# Altium footprint library EL.XXX.T01.PcbLib: 92 footprints (part 5 of 6)
Each footprint in its own frame and in the unit in brackets; x right, y up, seen from the top. Pads: shape width x height; smd on the part's side, far side on the other; paste and mask are expansions set on the pad; w line width, h text height; cw(c..) or ccw(c..) is an arc to the next point about the centre after c.
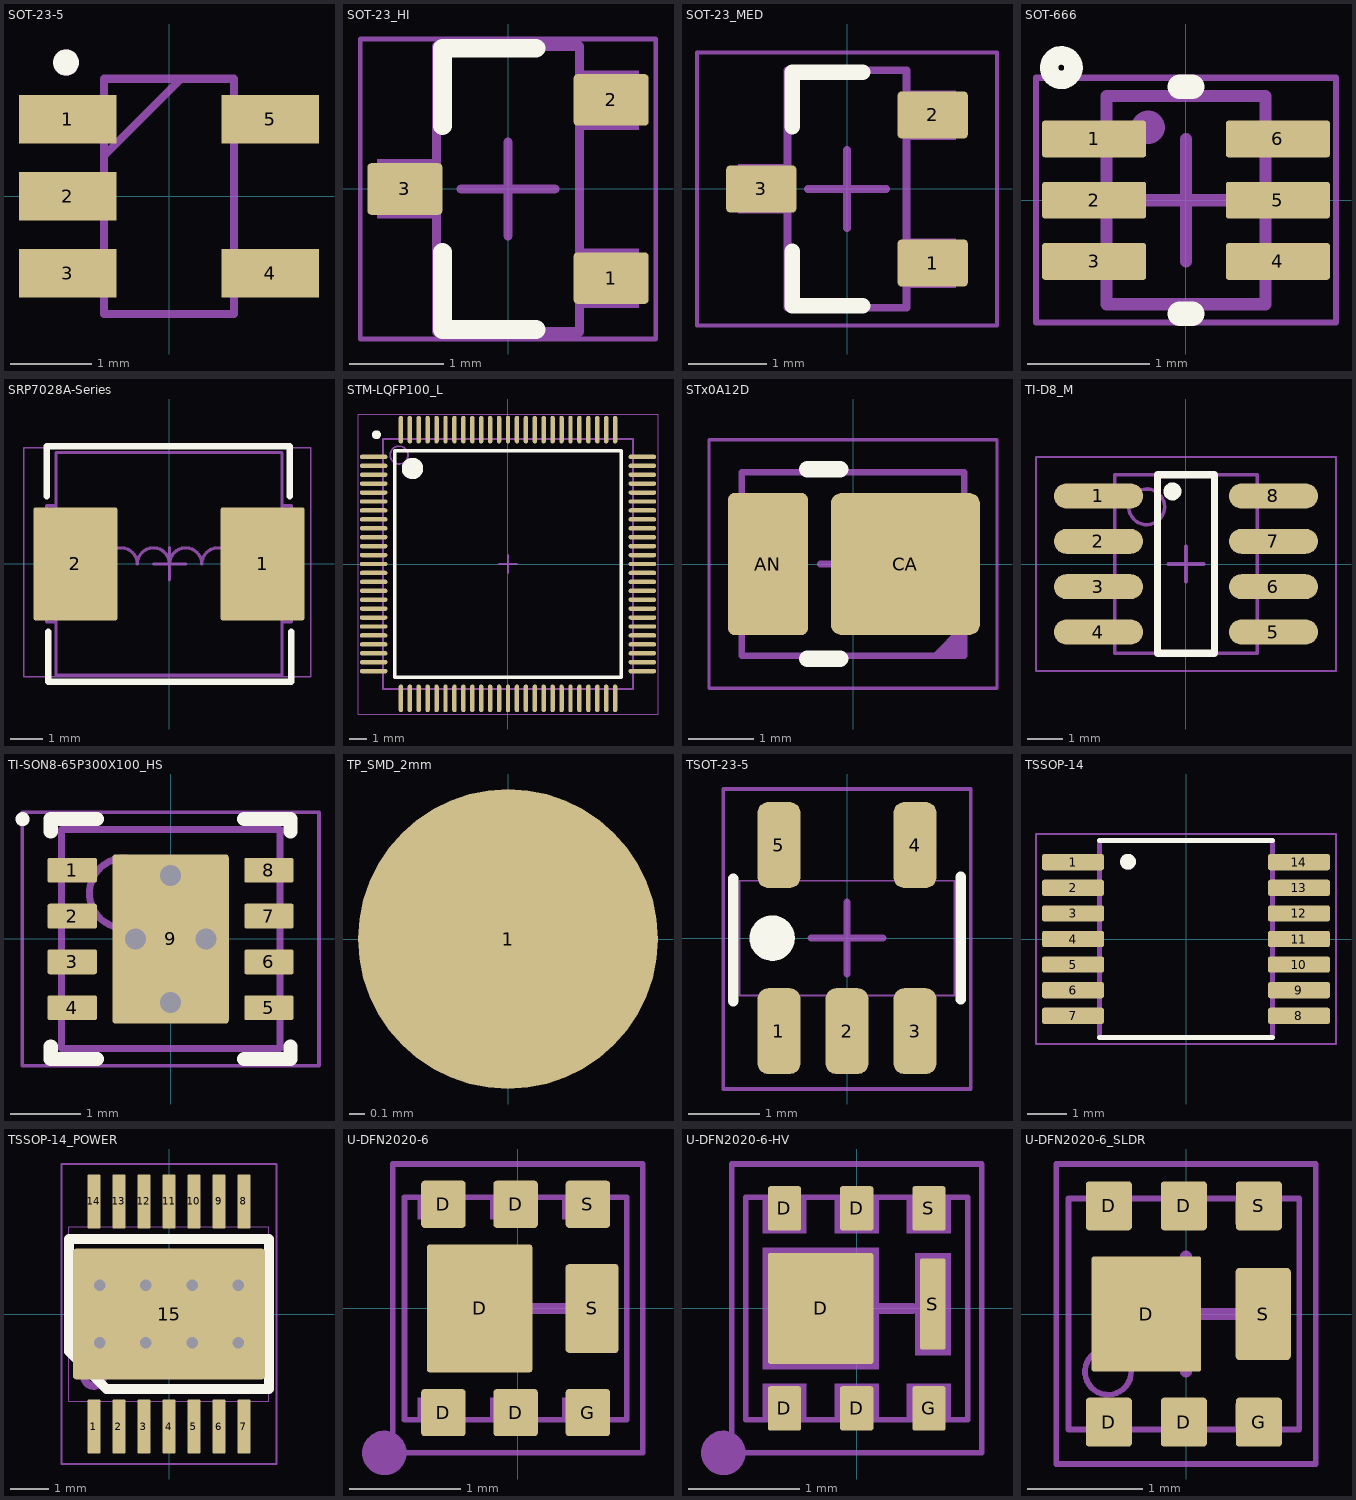
[diagram p4: the footprints below, top view; thin cyan lines are the x and y axes]

## SOT-23-5 [mm]
pads (5):
  rect 1.2x0.6 smd: 1(-1.25,0.95) 2(-1.25,0) 3(-1.25,-0.95) 4(1.25,-0.95) 5(1.25,0.95)
Top Overlay:
  circle w0.16: c-1.27,1.651 r0.08
Top Assembly:
  circle w0.16: c-1.27,1.651 r0.08
  lines w0.1: -0.8,0.5 0.15,1.45 ; -0.8,-1.45 0.8,-1.45 0.8,1.45 -0.8,1.45 -0.8,-1.45
3D body "LM4132AMF-1.8_NOPB.stp": height 1.2, standoff 0, extent -1.552,-1.45 1.248,1.45

## SOT-23_HI [mm]
pads (3):
  rrect15% 0.8x0.55 smd mask+0.05: 1(1.1,-0.95) 2(1.1,0.95) 3(-1.1,0)
Top Overlay:
  lines w0.2: -0.7,-0.675 -0.7,-1.5 0.3,-1.5 ; -0.7,0.675 -0.7,1.5 0.3,1.5
Top Courtyard:
  lines w0.05: -1.575,-1.6 1.575,-1.6 1.575,1.6 -1.575,1.6 -1.575,-1.6
  lines w0.1: -0.5,0 0.5,0 ; 0,-0.5 0,0.5
Top Designator:
  text ".Designator" at -1.925,2.8 h0.5
Top Assembly:
  rectangle: -1.397,-0.315 -0.762,0.32
  region: 1.397,1.265 0.762,1.265 0.762,0.63 1.397,0.63
  region: 1.397,-0.635 0.762,-0.635 0.762,-1.27 1.397,-1.27
  lines w0.1: -0.762,-1.524 0.762,-1.524 0.762,1.524 -0.762,1.524 -0.762,-1.524
Top Value:
  text ".Comment" at -1.925,2.175 h0.5
3D body "SOT23.STEP": height 1.15, standoff 0, extent -1.275,-1.5 1.275,1.5

## SOT-23_MED [mm]
pads (3):
  rrect15% 0.9x0.6 smd mask+0.05: 1(1.1,-0.95) 2(1.1,0.95) 3(-1.1,0)
Top Overlay:
  lines w0.2: -0.7,-0.8 -0.7,-1.5 0.2,-1.5 ; -0.7,0.8 -0.7,1.5 0.2,1.5
Top Courtyard:
  lines w0.05: -1.925,-1.75 1.925,-1.75 1.925,1.75 -1.925,1.75 -1.925,-1.75
  lines w0.1: -0.5,0 0.5,0 ; 0,-0.5 0,0.5
Top Designator:
  text ".Designator" at -2.1,2.875 h0.5
Top Assembly:
  region: 1.397,-0.635 0.762,-0.635 0.762,-1.27 1.397,-1.27
  region: 1.397,1.265 0.762,1.265 0.762,0.63 1.397,0.63
  rectangle: -1.397,-0.315 -0.762,0.32
  lines w0.1: -0.762,-1.524 -0.762,1.524 0.762,1.524 0.762,-1.524 -0.762,-1.524
Top Value:
  text ".Comment" at -2.075,2.175 h0.5
3D body "SOT-2395P230X110-3N.step": height 1.1, standoff 0, extent -1.25,-1.5 1.25,1.5

## SOT-666 [mm]
pads (6):
  rrect15% 0.85x0.3 smd paste+0 mask+0.05: 1(-0.75,0.5) 2(-0.75,0) 3(-0.75,-0.5) 4(0.75,-0.5) 5(0.75,0) 6(0.75,0.5)
Top Overlay:
  circle w0.15: c-1.018,1.083 r0.1
  lines w0.2: -0.05,-0.926 0.05,-0.926 ; -0.05,0.926 0.05,0.926
Top Courtyard:
  lines w0.05: -1.225,-1 -1.225,1 1.225,1 1.225,-1 -1.225,-1
  lines w0.1: -0.5,0 0.5,0 ; 0,-0.5 0,0.5
Top Designator:
  text ".Designator" at 0,0.5 h0.5
Top Assembly:
  circle w0.254: c-0.309,0.595 r0.009
  lines w0.025: -0.688,-0.597 -0.888,-0.597 -0.888,-0.397 -0.688,-0.397 ; -0.688,-0.093 -0.888,-0.093 -0.888,0.107 -0.688,0.107 ; -0.688,0.403 -0.888,0.403 -0.888,0.603 -0.688,0.603 ; 0.692,-0.605 0.892,-0.605 0.892,-0.405 0.692,-0.405 ; 0.692,-0.109 0.892,-0.109 0.892,0.091 0.692,0.091 ; 0.692,0.395 0.892,0.395 0.892,0.595 0.692,0.595
  lines w0.1: -0.65,-0.85 -0.65,0.85 0.65,0.85 0.65,-0.85 -0.65,-0.85
Top Value:
  text ".Comment" at 1,2 h0.5
3D body "SOT-666.step": height 0.62, standoff 0, extent -0.8,-0.848 0.8,0.848

## SRP7028A-Series [mm]
pads (2):
  rrect5% 2.6x3.5 smd: 1(2.9,0) 2(-2.9,0)
Top Overlay:
  lines w0.2: -3.787,2.1 -3.787,3.65 3.75,3.65 3.75,2.1 ; -3.742,-2.106 -3.742,-3.656 3.795,-3.656 3.795,-2.106
Top Courtyard:
  lines w0.05: -4.5,-3.5 -4.5,3.6 4.4,3.6 4.4,-3.5 -4.5,-3.5
  lines w0.1: -0.484,-0.001 0.516,-0.001 ; 0.016,-0.501 0.016,0.499
Top Designator:
  text ".Designator" at -1.7,4.5 h0.5
Top Assembly:
  lines w0.1: -3.5,-1.8 -3.8,-1.8 -3.8,1.8 -3.5,1.8 ; -2.984,-0.001 -1.984,-0.001 cw(c-1.484,-0.001) -0.984,-0.001 cw(c-0.484,-0.001) 0.016,-0.001 cw(c0.516,-0.001) 1.016,-0.001 cw(c1.516,-0.001) 2.016,-0.001 3.016,-0.001 ; 3.5,-1.8 3.8,-1.8 3.8,1.8 3.5,1.8 ; -3.5,-3.45 -3.5,3.45 3.5,3.45 3.5,-3.45 -3.5,-3.45
Top Value:
  text ".Comment" at -1.6,3.8 h0.5
3D body: height 1.8, standoff 0, extent 1.95,-1.525 3.8,1.525
3D body: height 1.8, standoff 0, extent -3.8,-1.525 -1.95,1.525
3D body: height 3, standoff 0, extent -3.5,-3.45 3.5,3.45

## STM-LQFP100_L [mm]
pads (100):
  oval 1.55x0.25 smd: 1(-7.525,6) 2(-7.525,5.5) 3(-7.525,5) 4(-7.525,4.5) 5(-7.525,4) 6(-7.525,3.5) 7(-7.525,3) 8(-7.525,2.5) 9(-7.525,2) 10(-7.525,1.5) 11(-7.525,1) 12(-7.525,0.5) 13(-7.525,0) 14(-7.525,-0.5) 15(-7.525,-1) 16(-7.525,-1.5) 17(-7.525,-2) 18(-7.525,-2.5) 19(-7.525,-3) 20(-7.525,-3.5) 21(-7.525,-4) 22(-7.525,-4.5) 23(-7.525,-5) 24(-7.525,-5.5) 25(-7.525,-6) 51(7.525,-6) 52(7.525,-5.5) 53(7.525,-5) 54(7.525,-4.5) 55(7.525,-4) 56(7.525,-3.5) 57(7.525,-3) 58(7.525,-2.5) 59(7.525,-2) 60(7.525,-1.5) 61(7.525,-1) 62(7.525,-0.5) 63(7.525,0) 64(7.525,0.5) 65(7.525,1) 66(7.525,1.5) 67(7.525,2) 68(7.525,2.5) 69(7.525,3) 70(7.525,3.5) 71(7.525,4) 72(7.525,4.5) 73(7.525,5) 74(7.525,5.5) 75(7.525,6)
  oval 0.25x1.55 smd: 26(-6,-7.525) 27(-5.5,-7.525) 28(-5,-7.525) 29(-4.5,-7.525) 30(-4,-7.525) 31(-3.5,-7.525) 32(-3,-7.525) 33(-2.5,-7.525) 34(-2,-7.525) 35(-1.5,-7.525) 36(-1,-7.525) 37(-0.5,-7.525) 38(0,-7.525) 39(0.5,-7.525) 40(1,-7.525) 41(1.5,-7.525) 42(2,-7.525) 43(2.5,-7.525) 44(3,-7.525) 45(3.5,-7.525) 46(4,-7.525) 47(4.5,-7.525) 48(5,-7.525) 49(5.5,-7.525) 50(6,-7.525) 76(6,7.525) 77(5.5,7.525) 78(5,7.525) 79(4.5,7.525) 80(4,7.525) 81(3.5,7.525) 82(3,7.525) 83(2.5,7.525) 84(2,7.525) 85(1.5,7.525) 86(1,7.525) 87(0.5,7.525) 88(0,7.525) 89(-0.5,7.525) 90(-1,7.525) 91(-1.5,7.525) 92(-2,7.525) 93(-2.5,7.525) 94(-3,7.525) 95(-3.5,7.525) 96(-4,7.525) 97(-4.5,7.525) 98(-5,7.525) 99(-5.5,7.525) 100(-6,7.525)
Top Overlay:
  circle w0.25: c-7.366,7.239 r0.125
  circle w0.6: c-5.35,5.35 r0.3
  lines w0.2: -6.35,-6.35 -6.35,6.35 6.35,6.35 6.35,-6.35 -6.35,-6.35
Mechanical 13:
  circle w0.1: c-6.1,6.1 r0.5
  lines w0.1: -7,-7 -7,7 7,7 7,-7 -7,-7
Mechanical 15:
  lines w0.05: -8.4,-8.4 -8.4,8.4 8.4,8.4 8.4,-8.4 -8.4,-8.4
  lines w0.1: -0.5,0 0.5,0 ; 0,-0.5 0,0.5
3D body: height 1.6, standoff 0.05, extent -7,-7 7,7

## STx0A12D [mm]
pads (2):
  rrect15% 1.22x2.17 smd mask+0.05: AN(-1.3,0)
  rrect15% 2.28x2.17 smd mask+0.05: CA(0.8,0)
Top Overlay:
  lines w0.254: -0.7,-1.45 -0.2,-1.45 ; -0.7,1.45 -0.2,1.45
Top Courtyard:
  lines w0.05: -2.2,-1.9 2.2,-1.9 2.2,1.9 -2.2,1.9 -2.2,1.025 -2.2,-1.9
  lines w0.1: -0.5,0 0.5,0 ; 0,-0.5 0,0.5
Top Designator:
  text ".Designator" at -1.767,2.851 h0.5
Top Assembly:
  region: 1.696,-1.425 1.171,-1.425 1.696,-0.9
  lines w0.1: 0.367,-0.372 0.367,0.39 ; -1.7,-1.4 1.7,-1.4 1.7,1.4 -1.7,1.4 -1.7,-1.4 ; -0.268,-0.372 -0.268,0.39 0.367,0.009 -0.268,-0.372
Top Value:
  text ".Comment" at -1.767,2.114 h0.5
3D body "LL-R2835.SLDPRT": height 0.7, standoff 0, extent -1.75,-1.4 1.75,1.4

## TI-D8_M [mm]
pads (8):
  oval 2.5x0.7 smd: 1(-2.45,1.905) 2(-2.45,0.635) 3(-2.45,-0.635) 4(-2.45,-1.905) 5(2.45,-1.905) 6(2.45,-0.635) 7(2.45,0.635) 8(2.45,1.905)
Top Overlay:
  circle w0.25: c-0.381,2.032 r0.125
  lines w0.2: -0.8,-2.5 0.8,-2.5 0.8,2.5 -0.8,2.5 -0.8,-2.5
Mechanical 13:
  circle w0.1: c-1.1,1.6 r0.5
  lines w0.1: -2,-2.5 2,-2.5 2,2.5 -2,2.5 -2,-2.5
Mechanical 15:
  lines w0.05: -4.2,-3 4.2,-3 4.2,3 -4.2,3 -4.2,-3
  lines w0.1: -0.5,0 0.5,0 ; 0,-0.5 0,0.5
3D body: height 1.75, standoff 0.1, extent -2,-2.5 2,2.5

## TI-SON8-65P300X100_HS [mm]
pads (9):
  rrect15% 0.7x0.35 smd mask+0.05: 1(-1.395,0.975) 2(-1.395,0.325) 3(-1.395,-0.325) 4(-1.395,-0.975) 5(1.395,-0.975) 6(1.395,-0.325) 7(1.395,0.325) 8(1.395,0.975)
  rrect5% 1.65x2.4 smd paste-1.2 mask+0.05: 9(0,0)
via -0.5,0 diameter 0.6 hole 0.3
via 0,-0.9 diameter 0.6 hole 0.3
via 0,0.9 diameter 0.6 hole 0.3
via 0.5,0 diameter 0.6 hole 0.3
Top Overlay:
  circle w0.1: c-2.1,1.7 r0.05
  lines w0.2: -1.7,-1.525 -1.7,-1.7 -1.045,-1.7 ; -1.7,1.525 -1.7,1.7 -1.045,1.7 ; 1.045,-1.7 1.7,-1.7 1.7,-1.525 ; 1.045,1.7 1.7,1.7 1.7,1.525
Top Paste:
  rectangle: -0.735,0.1 0.735,1.16
  rectangle: -0.735,-1.16 0.735,-0.1
Top Courtyard:
  lines w0.05: -2.105,-1.8 -2.105,1.8 2.105,1.8 2.105,-1.8 -2.105,-1.8
  lines w0.1: -0.5,0 0.5,0 ; 0,-0.5 0,0.5
Top Designator:
  text ".Designator" at -1.916,2.684 h0.5
Top Assembly:
  circle w0.1: c-0.65,0.65 r0.5
  lines w0.1: -1.55,-1.55 -1.55,1.55 1.55,1.55 1.55,-1.55 -1.55,-1.55
Top Value:
  text ".Comment" at -1.916,2.071 h0.5
3D body "TI_SON8-65P300X100_HS-9N.step": height 1, standoff 0, extent -1.65,-1.55 1.65,1.55

## TP_SMD_2mm [mm]
pads (1):
  round 2 smd paste-2 mask+0.05: 1(0,0)
Top Designator:
  text ".Designator" at -1.6,2.2 h0.5
Top Assembly:
  circle w0.025: c0,0 r0.8
  lines w0.025: -0.797,0.003 0,0.8 ; -0.777,-0.177 0.177,0.777 ; -0.762,0.238 -0.242,0.758 ; -0.727,-0.327 0.326,0.726 ; -0.653,-0.453 0.454,0.654 ; -0.565,-0.565 0.564,0.564 ; -0.455,-0.655 0.655,0.455 ; -0.328,-0.728 0.726,0.326 ; -0.176,-0.776 0.778,0.178 ; 0.007,-0.793 0.796,-0.004 ; 0.239,-0.761 0.764,-0.236
Top Value:
  text ".Comment" at -1.6,1.5 h0.5
3D body: height 0.1, standoff 0, extent -0.998,-0.998 0.994,0.998

## TSOT-23-5 [mm]
pads (5):
  rrect50% 0.6x1.2 smd mask+0.05: 1(-0.95,-1.3) 2(0,-1.3) 3(0.95,-1.3) 4(0.95,1.3) 5(-0.95,1.3)
Top Overlay:
  circle w0.254: c-1.045,0 r0.19
  lines w0.15: -1.59,-0.88 -1.59,0.83 ; 1.59,-0.855 1.59,0.855
  lines w0.254: -1.045,-0.19 -1.045,0.19
Top Courtyard:
  lines w0.05: -1.727,-2.108 -1.727,2.083 1.727,2.083 1.727,-2.108 -1.727,-2.108
  lines w0.1: -0.5,0 0.5,0 ; 0,-0.5 0,0.5
Top Designator:
  text ".Designator" at -1.651,2.794 h0.5
Top Assembly:
  lines w0.025: -1.1,-0.8 -1.1,-1.5 -0.8,-1.5 -0.8,-0.8 ; -1.1,0.8 -1.1,1.5 -0.8,1.5 -0.8,0.8 ; -0.15,-0.8 -0.15,-1.5 0.15,-1.5 0.15,-0.8 ; 0.8,-0.8 0.8,-1.5 1.1,-1.5 1.1,-0.8 ; 0.8,0.8 0.8,1.5 1.1,1.5 1.1,0.8 ; -1.5,-0.8 1.5,-0.8 1.5,0.8 -1.5,0.8 -1.5,-0.8
Top Value:
  text ".Comment" at -1.676,2.21 h0.5
3D body "TSOT23-5.STEP": height 0.94, standoff -0.02, extent -1.45,-1.595 1.45,1.601

## TSSOP-14 [mm]
pads (14):
  rrect25% 1.57x0.41 smd: 1(-2.87,1.95) 2(-2.87,1.3) 3(-2.87,0.65) 4(-2.87,0) 5(-2.87,-0.65) 6(-2.87,-1.3) 7(-2.87,-1.95) 8(2.87,-1.95) 9(2.87,-1.3) 10(2.87,-0.65) 11(2.87,0) 12(2.87,0.65) 13(2.87,1.3) 14(2.87,1.95)
Top Overlay:
  circle w0.2: c-1.473,1.962 r0.1
  lines w0.127: -2.2,-2.5 2.2,-2.5 ; -2.2,2.5 2.2,2.5
Mechanical 13:
  circle w0.2: c-1.473,1.962 r0.1
  lines w0.127: -2.2,-2.5 2.2,-2.5 2.2,2.5 -2.2,2.5 -2.2,-2.5
Mechanical 15:
  lines w0.05: -3.81,-2.667 3.81,-2.667 3.81,2.667 -3.81,2.667 -3.81,-2.667
3D body "TLV3544IPWR.STEP": height 1.2, standoff 0, extent -3.2,-2.5 3.2,2.5

## TSSOP-14_POWER [mm]
pads (15):
  rrect15% 0.35x1.4 smd paste+0 mask+0.05: 1(-1.95,-2.925) 2(-1.3,-2.925) 3(-0.65,-2.925) 4(0,-2.925) 5(0.65,-2.925) 6(1.3,-2.925) 7(1.95,-2.925) 8(1.95,2.925) 9(1.3,2.925) 10(0.65,2.925) 11(0,2.925) 12(-0.65,2.925) 13(-1.3,2.925) 14(-1.95,2.925)
  rrect5% 5x3.4 smd paste-2.5 mask-2.5: 15(0,0)
via -0.6,-0.75 diameter 0.65 hole 0.3
via -0.6,0.75 diameter 0.65 hole 0.3
via 0.6,-0.75 diameter 0.65 hole 0.3
via 0.6,0.75 diameter 0.65 hole 0.3
via 1.8,-0.75 diameter 0.65 hole 0.3
via 1.8,0.75 diameter 0.65 hole 0.3
via -1.8,-0.75 diameter 0.65 hole 0.3
via -1.8,0.75 diameter 0.65 hole 0.3
Top Overlay:
  lines w0.254: -2.6,-0.975 -1.625,-1.95 2.6,-1.95 2.6,1.95 -2.6,1.95 -2.6,-0.975
Top Paste:
  region: 1.155,1.23 -1.155,1.23 -1.155,-1.23 1.155,-1.23
Top Solder:
  region: 1.155,1.23 -1.155,1.23 -1.155,-1.23 1.155,-1.23
Top Courtyard:
  lines w0.05: -2.8,-3.9 2.8,-3.9 2.8,3.9 -2.8,3.9 -2.8,-3.9
  lines w0.1: -0.5,0 0.5,0 ; 0,-0.5 0,0.5
Top Designator:
  text ".Designator" at -1.865,4.824 h0.5
Top Assembly:
  circle w0.2: c-1.96,-1.62 r0.25
  lines w0.025: -2.08,-2.6 -1.82,-2.6 ; -2.08,-2.275 -2.08,-3.185 -1.82,-3.185 -1.82,-2.275 ; -2.08,2.275 -2.08,3.185 -1.82,3.185 -1.82,2.275 ; -2.08,2.6 -1.82,2.6 ; -1.43,-2.6 -1.17,-2.6 ; -1.43,-2.275 -1.43,-3.185 -1.17,-3.185 -1.17,-2.275 ; -1.43,2.275 -1.43,3.185 -1.17,3.185 -1.17,2.275 ; -1.43,2.6 -1.17,2.6 ; -0.78,-2.6 -0.52,-2.6 ; -0.78,-2.275 -0.78,-3.185 -0.52,-3.185 -0.52,-2.275 ; -0.78,2.275 -0.78,3.185 -0.52,3.185 -0.52,2.275 ; -0.78,2.6 -0.52,2.6 ; -0.13,-2.6 0.13,-2.6 ; -0.13,-2.275 -0.13,-3.185 0.13,-3.185 0.13,-2.275 ; -0.13,2.275 -0.13,3.185 0.13,3.185 0.13,2.275 ; -0.13,2.6 0.13,2.6 ; 0.52,-2.6 0.78,-2.6 ; 0.52,-2.275 0.52,-3.185 0.78,-3.185 0.78,-2.275 ; 0.52,2.275 0.52,3.185 0.78,3.185 0.78,2.275 ; 0.52,2.6 0.78,2.6 ; 1.17,-2.6 1.43,-2.6 ; 1.17,-2.275 1.17,-3.185 1.43,-3.185 1.43,-2.275 ; 1.17,2.275 1.17,3.185 1.43,3.185 1.43,2.275 ; 1.17,2.6 1.43,2.6 ; 1.82,-2.6 2.08,-2.6 ; 1.82,-2.275 1.82,-3.185 2.08,-3.185 2.08,-2.275 ; 1.82,2.275 1.82,3.185 2.08,3.185 2.08,2.275 ; 1.82,2.6 2.08,2.6 ; -2.6,-2.275 2.6,-2.275 2.6,2.275 -2.6,2.275 -2.6,-2.275
Top Value:
  text ".Comment" at -1.865,4.087 h0.5
3D body "HTSSOP-14.step": height 1.2, standoff 0, extent -2.55,-3.3 2.55,3.3

## U-DFN2020-6 [mm]
pads (8):
  rrect15% 0.4x0.425 smd mask+0.05: D(-0.669,-0.938) D(-0.669,0.938) D(-0.019,-0.938) D(-0.019,0.938) G(0.631,-0.938) S(0.631,0.938)
  rrect5% 0.95x1.15 smd mask+0.05: D(-0.344,0)
  rrect15% 0.48x0.8 smd mask+0.05: S(0.669,0)
Top Courtyard:
  lines w0.05: -1.125,-1.3 -1.125,1.3 1.125,1.3 1.125,-1.3 -1.125,-1.3
  lines w0.1: -0.5,0 0.5,0 ; 0,-0.5 0,0.5
Top Designator:
  text ".Designator" at -1.675,2.15 h0.5
Top Assembly:
  circle w0.2: c-1.2,-1.3 r0.1
  rectangle: -0.8,-0.5 0.1,0.5
  rectangle: 0.5,-0.4 0.9,0.4
  rectangle: 0.4,-1 0.8,-0.8
  rectangle: -0.25,-1 0.15,-0.8
  rectangle: -0.9,-1 -0.5,-0.8
  rectangle: 0.4,0.8 0.8,1
  rectangle: -0.25,0.8 0.15,1
  rectangle: -0.9,0.8 -0.5,1
  lines w0.05: -1.019,-1 -1.019,1 0.981,1 0.981,-1 -1.019,-1
Top Value:
  text ".Comment" at -1.7,1.55 h0.5
3D body "U-DFN2020-6.STEP": height 0.6, standoff 0, extent -1.018,-1 0.982,1

## U-DFN2020-6-HV [mm]
pads (8):
  rrect15% 0.3x0.4 smd mask+0.05: D(-0.65,-0.9) D(-0.65,0.9) D(0,-0.9) D(0,0.9) G(0.65,-0.9) S(0.65,0.9)
  rrect5% 0.95x1 smd mask+0.05: D(-0.325,0)
  rrect15% 0.23x0.82 smd mask+0.05: S(0.685,0.04)
Top Courtyard:
  lines w0.05: -1.125,-1.3 1.125,-1.3 1.125,1.3 -1.125,1.3 -1.125,-1.3
  lines w0.1: -0.5,0 0.5,0 ; 0,-0.5 0,0.5
Top Designator:
  text ".Designator" at -1.675,2.15 h0.5
Top Assembly:
  circle w0.2: c-1.2,-1.3 r0.1
  rectangle: -0.85,0.675 -0.45,1
  rectangle: -0.2,0.675 0.2,1
  rectangle: 0.45,0.675 0.85,1
  rectangle: -0.85,-1 -0.45,-0.675
  rectangle: -0.2,-1 0.2,-0.675
  rectangle: 0.45,-1 0.85,-0.675
  rectangle: -0.85,-0.55 0.2,0.55
  rectangle: 0.525,-0.425 0.85,0.5
  lines w0.05: -1,-1 1,-1 1,1 -1,1 -1,-1
Top Value:
  text ".Comment" at -1.7,1.55 h0.5
3D body "U-DFN2020-6.STEP": height 0.6, standoff 0, extent -0.993,-1 1.007,1

## U-DFN2020-6_SLDR [mm]
pads (8):
  rrect15% 0.4x0.425 smd mask+0.05: D(-0.669,-0.938) D(-0.669,0.938) D(-0.019,-0.938) D(-0.019,0.938) G(0.631,-0.938) S(0.631,0.938)
  rrect5% 0.95x1 smd mask+0.05: D(-0.344,0)
  rrect15% 0.48x0.8 smd mask+0.05: S(0.669,0)
Top Courtyard:
  lines w0.05: -1.125,-1.3 -1.125,1.3 1.125,1.3 1.125,-1.3 -1.125,-1.3
  lines w0.1: -0.5,0 0.5,0 ; 0,-0.5 0,0.5
Top Designator:
  text ".Designator" at -1.5,2.2 h0.5
Top Assembly:
  circle w0.05: c-0.675,-0.5 r0.2
  rectangle: -0.825,0.775 -0.525,1
  rectangle: -0.175,0.775 0.125,1
  rectangle: 0.425,0.775 0.825,1
  rectangle: 0.425,-1 0.825,-0.775
  rectangle: -0.175,-1 0.125,-0.775
  rectangle: -0.825,-1 -0.525,-0.775
  lines w0.05: -1.019,-1 0.981,-1 0.981,1 -1.019,1 -1.019,-1
Top Value:
  text ".Comment" at -1.5,1.6 h0.5
3D body "U-DFN2020-6.STEP": height 0.6, standoff 0, extent -1.019,-1 0.981,1